# EAGLE library part UB225SKG036CF-1JB (library switch-nkk)
SWITCH PUSH DPDT 0.4VA 28V
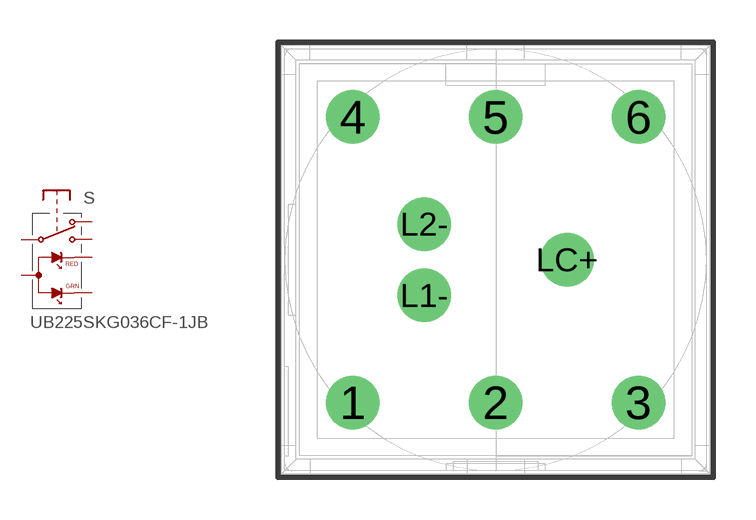
[diagram p3: symbol with the pads of UB2-SK-DP-2C; footprint UB2-SK-DP-2C]

Designator prefix S

## UB225SKG036CF-1JB  [UB2-SK-DP-2C]
1  P  pas
2  NO  pas
3  NC  pas
4  P  pas
5  NO  pas
6  NC  pas
L1-  L1-  pas
L2-  L2-  pas
LC+  LC+  pas

## Footprint UB2-SK-DP-2C (pad centres in mm)
SWITCH - NKK
drill 1.27: 1 -5.08,-5.08; 2 0,-5.08; 3 5.08,-5.08; 4 -5.08,5.08; 5 0,5.08; 6 5.08,5.08; L1- -2.54,-1.27; L2- -2.54,1.27; LC+ 2.54,0